# Altium integrated library Agilent Optoelectronic LED.IntLib: 357 symbols (part 6 of 6)
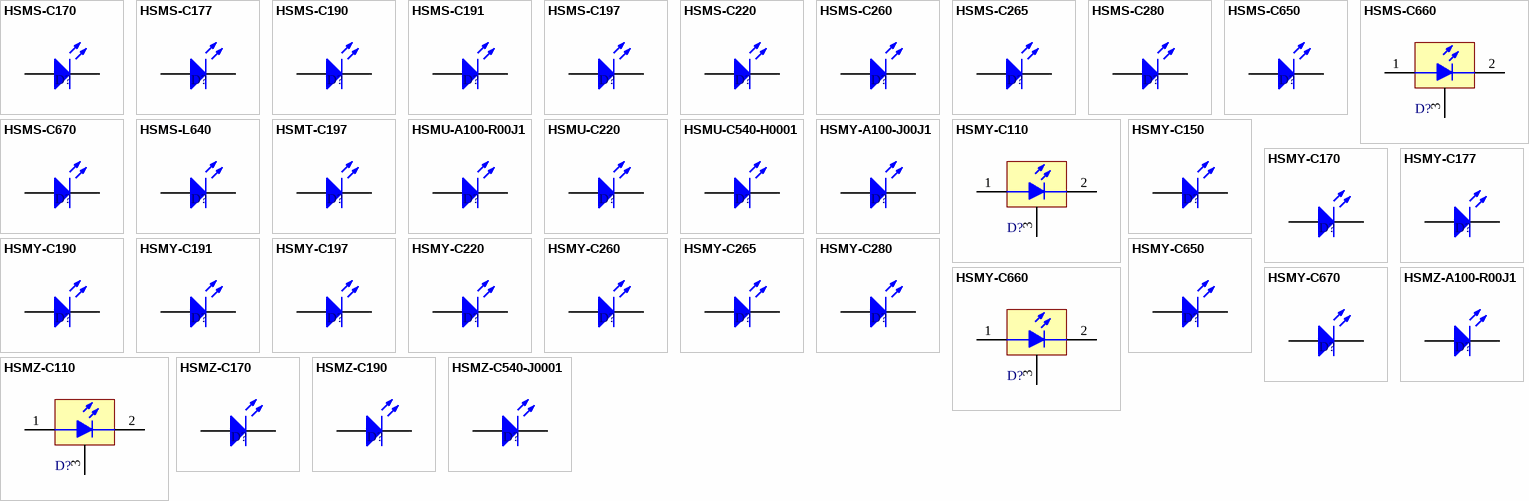
[diagram p13: symbols HSMS-C170 to HSMZ-C540-J0001]

## HSMY-C280
designator D?
Miniature Chip LED, Yellow; LuminousIntensity: 2.5mcd (Minimum).; PCB_Layout: Complies with manufacturer's recommendation.; Published: 11-Dec-2002; DatasheetDocument: 7-Mar-2002; PackageDocument: 07-Mar-2002; PackageReference: 1.0X0.5X0.4; Publisher: Altium Limited; LED_Colour: Yellow; ComponentLink1Description: Manufacturer Link; ComponentLink1URL: http://www.agilent.com/; ComponentLink2Description: Datasheet; ComponentLink2URL: http://cp.literature.agilent.com/litweb/pdf/5988-5890EN.pdf
footprint 1.0X0.5X0.4 (SM LED; 2 Flat Leads)
simulation model Agl_HSMYC110 (Diode)
signal-integrity model LED
pins: 1 A, 2 K

## HSMY-C650
designator D?
SMT Top Mount Chip LED, Yellow; LuminousIntensity: 1.6mcd (Minimum).; PCB_Layout: Complies with manufacturer's recommendation.; Published: 11-Dec-2002; DatasheetDocument: 1-May-2002; PackageDocument: 26-Feb-2002; PackageReference: 3.2X1.6X1.1; Publisher: Altium Limited; LED_Colour: Yellow; ComponentLink1Description: Manufacturer Link; ComponentLink1URL: http://www.agilent.com/; ComponentLink2Description: Datasheet; ComponentLink2URL: http://cp.literature.agilent.com/litweb/pdf/5988-2709EN.pdf
footprint 3.2X1.6X1.1 (SM LED; 2 Flat Leads)
simulation model Agl_HSMYC650 (Diode)
signal-integrity model LED
pins: 1 A, 2 K

## HSMY-C660
designator D?
Right Angle SMT Chip LED, Yellow; LuminousIntensity: 1.6mcd (Minimum).; PCB_Layout: Complies with manufacturer's recommendation.; Published: 11-Dec-2002; DatasheetDocument: 19-Oct-2001; PackageDocument: 29-Oct-2001; PackageReference: 3.0X1.0X2.0W; Publisher: Altium Limited; LED_Colour: Yellow; ComponentLink1Description: Manufacturer Link; ComponentLink1URL: http://www.agilent.com/; ComponentLink2Description: Datasheet; ComponentLink2URL: http://cp.literature.agilent.com/litweb/pdf/5988-4446EN.pdf
footprint 3.0X1.0X2.0W (SM Right-Angle Mount LED; 3 Leads; Body 3.0 x 1.0 x 2.0 mm (LxWxH))
simulation model Agl_HSMYC650 (Diode)
pins: 1 A, 2 K, 3 Mount

## HSMY-C670
designator D?
SMT Top Mount Chip LED, Yellow; LuminousIntensity: 1.6mcd (Minimum).; PCB_Layout: Complies with manufacturer's recommendation.; Published: 11-Dec-2002; DatasheetDocument: 1-May-2002; PackageDocument: 01-May-2002; PackageReference: 2.0X1.25X1.1; Publisher: Altium Limited; LED_Colour: Yellow; ComponentLink1Description: Manufacturer Link; ComponentLink1URL: http://www.agilent.com/; ComponentLink2Description: Datasheet; ComponentLink2URL: http://cp.literature.agilent.com/litweb/pdf/5988-2709EN.pdf
footprint 2.0X1.25X1.1 (SM LED; 2 Flat Leads)
simulation model Agl_HSMYC650 (Diode)
signal-integrity model LED
pins: 1 A, 2 K

## HSMZ-A100-R00J1
designator D?
Surface Mount LED Indicator, Red; LuminousIntensity: 100mcd (Minimum).; PCB_Layout: Complies with manufacturer's recommendation.; Published: 11-Dec-2002; DatasheetDocument: 16-Apr-2002; PackageDocument: 16-Apr-2002; PackageReference: 3.5X2.8X1.9; Publisher: Altium Limited; LED_Colour: Red; ComponentLink1Description: Manufacturer Link; ComponentLink1URL: http://www.agilent.com/; ComponentLink2Description: Datasheet; ComponentLink2URL: http://cp.literature.agilent.com/litweb/pdf/5988-6546EN.pdf
footprint 3.5X2.8X1.9 (SM LED; 2 C-Bend Leads; Body 3.5 x 2.8 x 1.9 mm, inc leads (LxWxH typ))
simulation model Agl_HSMDC110 (Diode)
signal-integrity model LED
pins: 1 A, 2 K

## HSMZ-C110
designator D?
High Performance Chip LED, Red; LuminousIntensity: 40mcd (Minimum).; PCB_Layout: Complies with manufacturer's recommendation.; Published: 11-Dec-2002; DatasheetDocument: 11-Mar-2002; PackageDocument: 11-Mar-2002; PackageReference: 3.2X1.0X1.5; Publisher: Altium Limited; LED_Colour: Red; ComponentLink1Description: Manufacturer Link; ComponentLink1URL: http://www.agilent.com/; ComponentLink2Description: Datasheet; ComponentLink2URL: http://cp.literature.agilent.com/litweb/pdf/5988-5891EN.pdf
footprint 3.2X1.0X1.5 (SM Right-Angle Mount LED; 3 Leads; Body 3.2 x 1.0 x 1.5 mm (LxWxH))
simulation model Agl_HSMZC110 (Diode)
pins: 1 A, 2 K, 3 Mount

## HSMZ-C170
designator D?
High Performance Chip LED, Red; LuminousIntensity: 40mcd (Minimum).; PCB_Layout: Complies with manufacturer's recommendation.; Published: 11-Dec-2002; DatasheetDocument: 11-Mar-2002; PackageDocument: 29-Oct-2001; PackageReference: 2.0X1.25X0.8; Publisher: Altium Limited; LED_Colour: Red; ComponentLink1Description: Manufacturer Link; ComponentLink1URL: http://www.agilent.com/; ComponentLink2Description: Datasheet; ComponentLink2URL: http://cp.literature.agilent.com/litweb/pdf/5988-5891EN.pdf
footprint 2.0X1.25X0.8 (SM LED; 2 Flat Leads)
simulation model Agl_HSMZC110 (Diode)
signal-integrity model LED
pins: 1 A, 2 K

## HSMZ-C190
designator D?
High Performance Chip LED, Red; LuminousIntensity: 40mcd (Minimum).; PCB_Layout: Complies with manufacturer's recommendation.; Published: 11-Dec-2002; DatasheetDocument: 11-Mar-2002; PackageDocument: 11-Mar-2002; PackageReference: 1.6X0.8X0.8; Publisher: Altium Limited; LED_Colour: Red; ComponentLink1Description: Manufacturer Link; ComponentLink1URL: http://www.agilent.com/; ComponentLink2Description: Datasheet; ComponentLink2URL: http://cp.literature.agilent.com/litweb/pdf/5988-5891EN.pdf
footprint 1.6X0.8X0.8 (SM LED; 2 Flat Leads)
simulation model Agl_HSMZC110 (Diode)
signal-integrity model LED
pins: 1 A, 2 K

## HSMZ-C540-J0001
designator D?
Top Mount TS AlInGaP Red Oval Lens High Brightness; LuminousIntensity: 209mcd (Minimum).; PCB_Layout: Complies with manufacturer's recommendation.; Published: 11-Dec-2002; DatasheetDocument: 7-Mar-2002; PackageDocument: 30-Apr-2002; PackageReference: 2.0X1.25X1.2; Publisher: Altium Limited; LED_Colour: Red; ComponentLink1Description: Manufacturer Link; ComponentLink1URL: http://www.agilent.com/; ComponentLink2Description: Datasheet; ComponentLink2URL: http://cp.literature.agilent.com/litweb/pdf/5988-5794EN.pdf
footprint 2.0X1.25X1.2 (SM LED; 2 Flat Leads)
simulation model Agl_HSMUC540 (Diode)
signal-integrity model LED
pins: 1 A, 2 K